# EAGLE library part C8051F350 (library 3D_MIG_Controller)
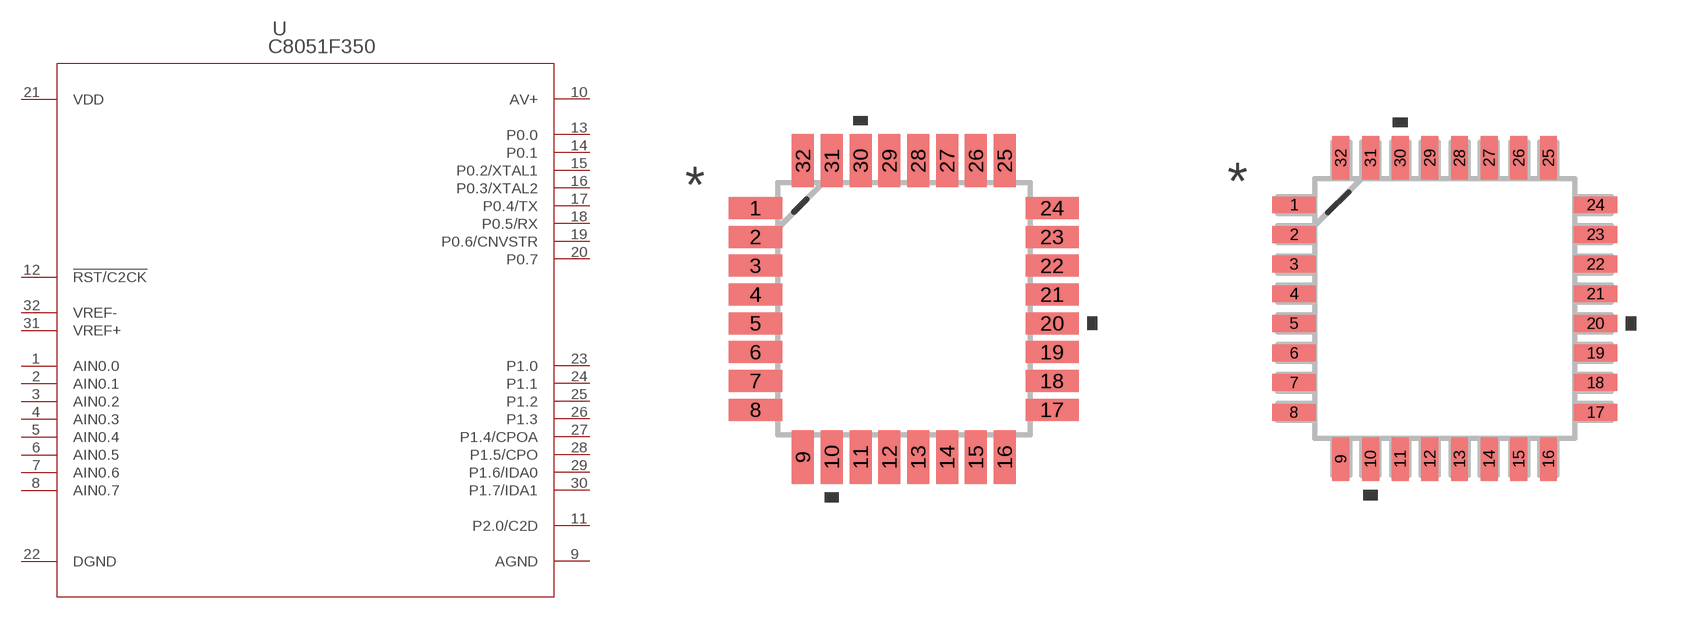
[diagram p0: symbol with the pads of QFP32-7X7-0P8MM; footprints QFP32-7X7-0P8MM, QFP32-7X7-0P8MM-L]

Designator prefix -

## C8051F350  [QFP32-7X7-0P8MM]
1  AIN0.0  pas
2  AIN0.1  pas
3  AIN0.2  pas
4  AIN0.3  pas
5  AIN0.4  pas
6  AIN0.5  pas
7  AIN0.6  pas
8  AIN0.7  pas
9  AGND  pas
10  AV+  pas
11  P2.0/C2D  pas
12  !RST/C2CK  pas
13  P0.0  pas
14  P0.1  pas
15  P0.2/XTAL1  pas
16  P0.3/XTAL2  pas
17  P0.4/TX  pas
18  P0.5/RX  pas
19  P0.6/CNVSTR  pas
20  P0.7  pas
21  VDD  pas
22  DGND  pas
23  P1.0  pas
24  P1.1  pas
25  P1.2  pas
26  P1.3  pas
27  P1.4/CPOA  pas
28  P1.5/CPO  pas
29  P1.6/IDA0  pas
30  P1.7/IDA1  pas
31  VREF+  pas
32  VREF-  pas

## C8051F350QFP32-7X7-0P8MM-L  [QFP32-7X7-0P8MM-L]
Pads as for QFP32-7X7-0P8MM

## C8051F350QFP32-7X7-0P8MM-M  [QFP32-7X7-0P8MM-M]
Pads as for QFP32-7X7-0P8MM

## Footprint QFP32-7X7-0P8MM (pad centres in mm)
smd 1.473 x 0.61: 1 -4.115,2.8; 2 -4.115,2; 3 -4.115,1.2; 4 -4.115,0.4; 5 -4.115,-0.4; 6 -4.115,-1.2; 7 -4.115,-2; 8 -4.115,-2.8; 17 4.115,-2.8; 18 4.115,-2; 19 4.115,-1.2; 20 4.115,-0.4; 21 4.115,0.4; 22 4.115,1.2; 23 4.115,2; 24 4.115,2.8
smd 0.61 x 1.473: 9 -2.8,-4.115; 10 -2,-4.115; 11 -1.2,-4.115; 12 -0.4,-4.115; 13 0.4,-4.115; 14 1.2,-4.115; 15 2,-4.115; 16 2.8,-4.115; 25 2.8,4.115; 26 2,4.115; 27 1.2,4.115; 28 0.4,4.115; 29 -0.4,4.115; 30 -1.2,4.115; 31 -2,4.115; 32 -2.8,4.115

## Footprint QFP32-7X7-0P8MM-L (pad centres in mm)
smd 1.168 x 0.457: 1 -4.064,2.8; 2 -4.064,2; 3 -4.064,1.2; 4 -4.064,0.4; 5 -4.064,-0.4; 6 -4.064,-1.2; 7 -4.064,-2; 8 -4.064,-2.8; 17 4.064,-2.8; 18 4.064,-2; 19 4.064,-1.2; 20 4.064,-0.4; 21 4.064,0.4; 22 4.064,1.2; 23 4.064,2; 24 4.064,2.8
smd 0.457 x 1.168: 9 -2.8,-4.064; 10 -2,-4.064; 11 -1.2,-4.064; 12 -0.4,-4.064; 13 0.4,-4.064; 14 1.2,-4.064; 15 2,-4.064; 16 2.8,-4.064; 25 2.8,4.064; 26 2,4.064; 27 1.2,4.064; 28 0.4,4.064; 29 -0.4,4.064; 30 -1.2,4.064; 31 -2,4.064; 32 -2.8,4.064

## Footprint QFP32-7X7-0P8MM-M (pad centres in mm)
smd 1.778 x 0.559: 1 -4.166,2.8; 2 -4.166,2; 3 -4.166,1.2; 4 -4.166,0.4; 5 -4.166,-0.4; 6 -4.166,-1.2; 7 -4.166,-2; 8 -4.166,-2.8; 17 4.166,-2.8; 18 4.166,-2; 19 4.166,-1.2; 20 4.166,-0.4; 21 4.166,0.4; 22 4.166,1.2; 23 4.166,2; 24 4.166,2.8
smd 0.559 x 1.778: 9 -2.8,-4.166; 10 -2,-4.166; 11 -1.2,-4.166; 12 -0.4,-4.166; 13 0.4,-4.166; 14 1.2,-4.166; 15 2,-4.166; 16 2.8,-4.166; 25 2.8,4.166; 26 2,4.166; 27 1.2,4.166; 28 0.4,4.166; 29 -0.4,4.166; 30 -1.2,4.166; 31 -2,4.166; 32 -2.8,4.166